# Altium footprint library MPU6050.PcbLib: 1 footprints
Each footprint in its own frame and in the unit in brackets; x right, y up, seen from the top. Pads: shape width x height; smd on the part's side, far side on the other; paste and mask are expansions set on the pad; w line width, h text height; cw(c..) or ccw(c..) is an arc to the next point about the centre after c.
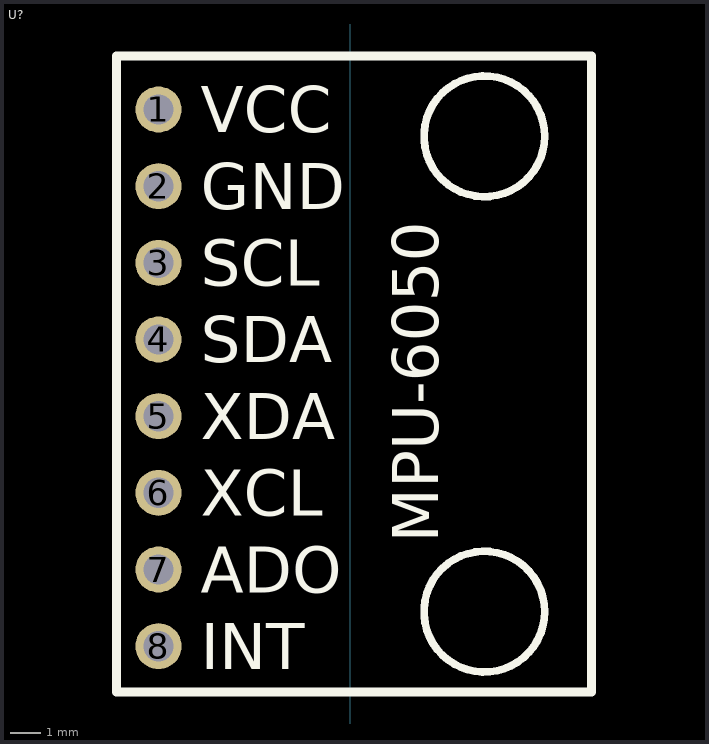
[diagram p0: the footprint, top view; thin cyan lines are the x and y axes]

## U? [mil]
pads (8):
  round 60 hole 39.37: 1(-250,825) 2(-250,725) 3(-250,625) 4(-250,525) 5(-250,425) 6(-250,325) 7(-250,225) 8(-250,125)
Top Overlay:
  circle w10: c175,170 r78.74
  circle w10: c175,790 r78.74
  lines w11.81: -305,65 315,65 315,895 -305,895 -305,65
  text "MPU-6050" at 115,260 h60
  text "VCC" at -195,795 h60
  text "GND" at -195,695 h60
  text "SCL" at -195,595 h60
  text "SDA" at -195,495 h60
  text "XDA" at -195,395 h60
  text "XCL" at -195,295 h60
  text "ADO" at -195,195 h60
  text "INT" at -195,95 h60